# EAGLE library part LCD-SIL16-REG (library steves)
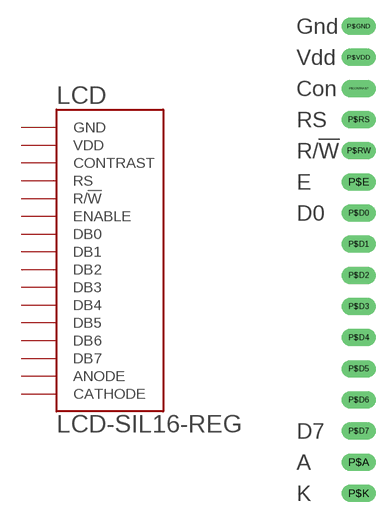
[diagram p42: symbol with the pads of LCD-SIL16-REG; footprint LCD-SIL16-REG]

Designator prefix LCD

## LCD-SIL16-REG  [LCD-SIL16-REG]
P$A  ANODE  pas
P$CONTRAST  CONTRAST  in
P$D0  DB0
P$D1  DB1
P$D2  DB2
P$D3  DB3
P$D4  DB4
P$D5  DB5
P$D6  DB6
P$D7  DB7
P$E  ENABLE  in
P$GND  GND  pwr
P$K  CATHODE  pas
P$RS  RS  in
P$RW  R/!W  in
P$VDD  VDD  pwr

## Footprint LCD-SIL16-REG (pad centres in mm)
drill 0.9 long: P$A 0,-17.78; P$CONTRAST 0,12.7; P$D0 0,2.54; P$D1 0,0; P$D2 0,-2.54; P$D3 0,-5.08; P$D4 0,-7.62; P$D5 0,-10.16; P$D6 0,-12.7; P$D7 0,-15.24; P$E 0,5.08; P$GND 0,17.78; P$K 0,-20.32; P$RS 0,10.16; P$RW 0,7.62; P$VDD 0,15.24